# Altium integrated library Altium_WE-TVS (rev24a).IntLib: 34 symbols
Pins are listed as number, name and electrical type; pins without a type are passive.

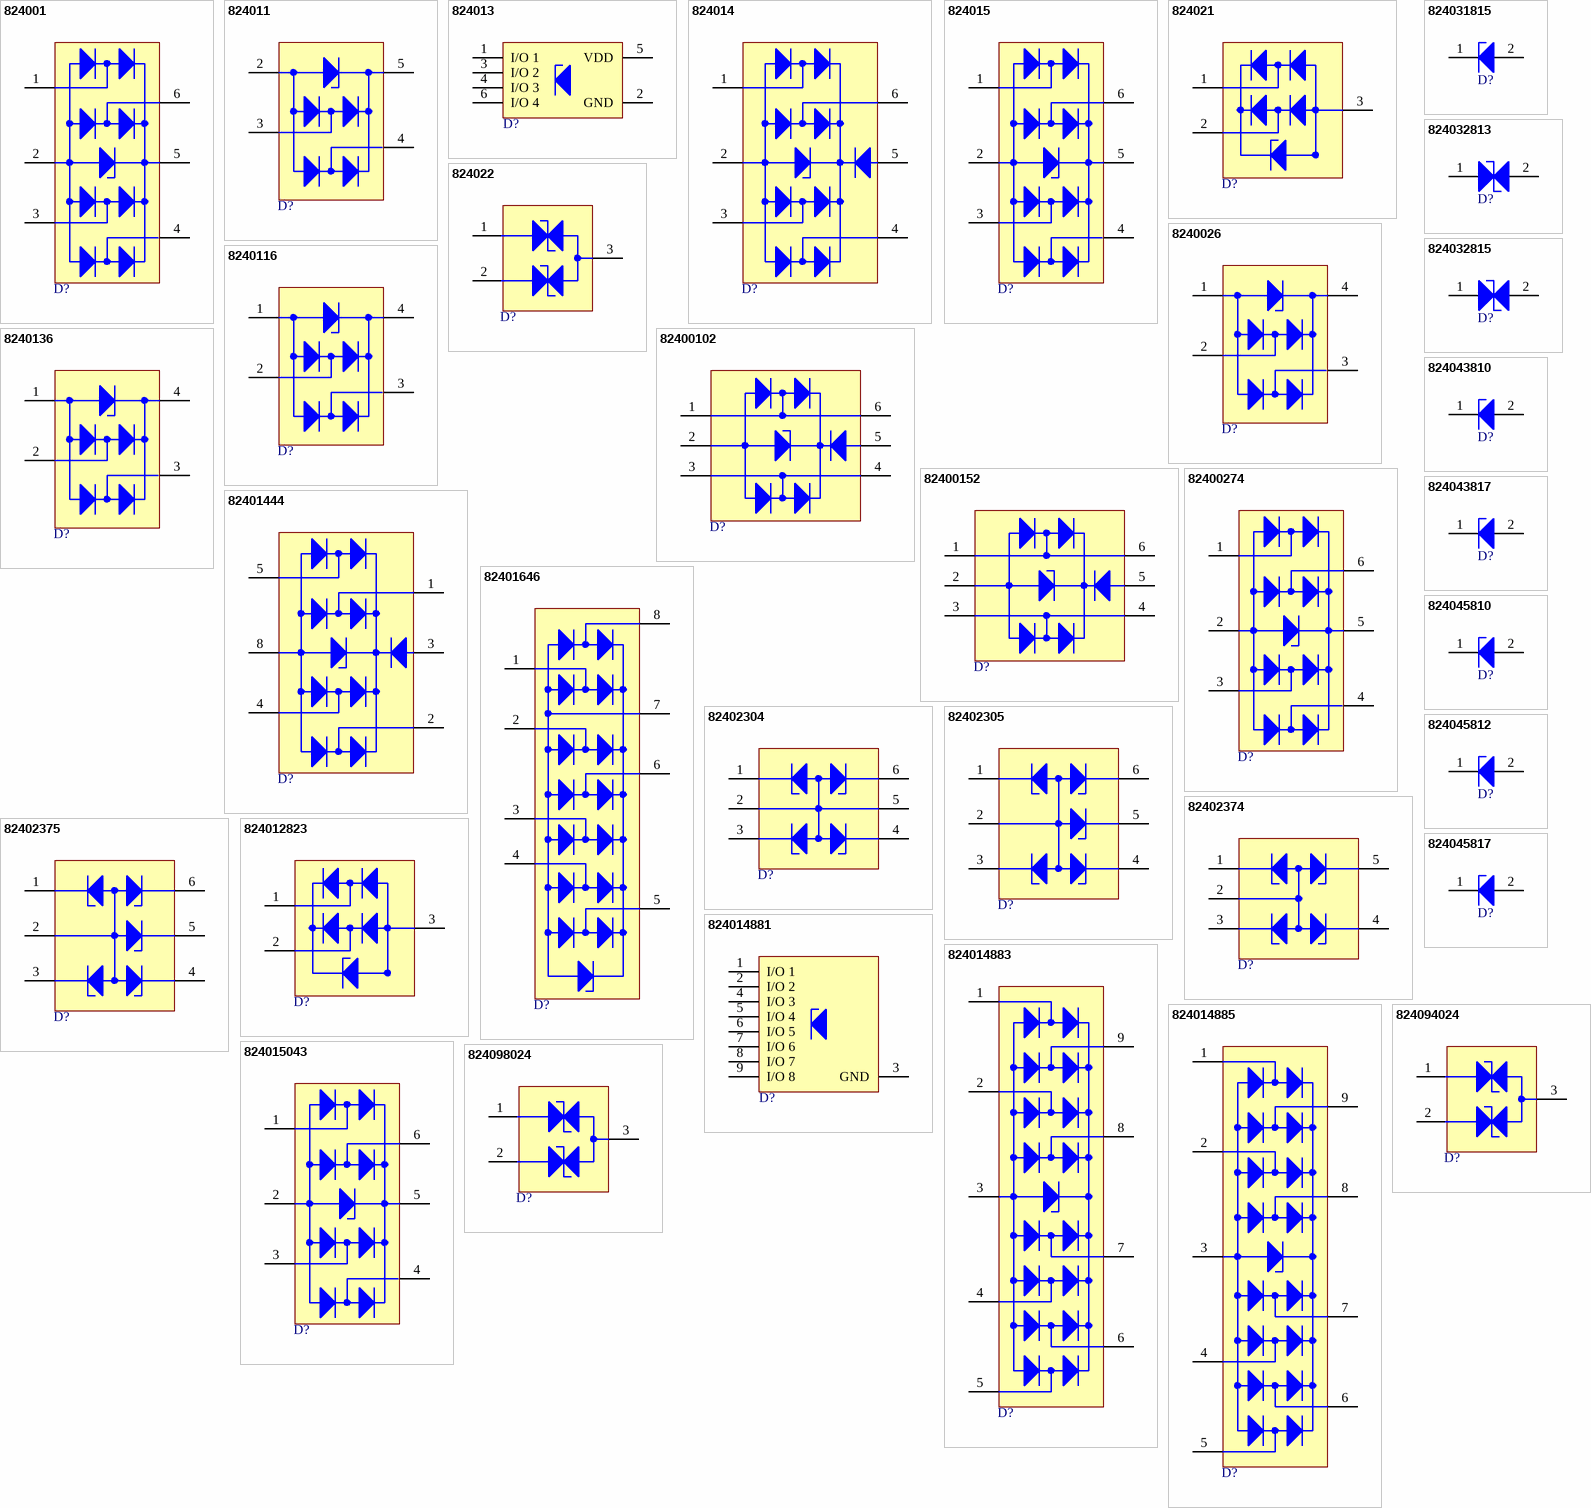
[diagram p0: symbols 824001 to 824098024]

## 824001
designator D?, comment 5V  (value not drawn)
WE-TVS TVS Diode – High Speed Series, SOT23-6L, 4+1 Channel, 5V, 1pF; Manufacturer Part Number: 824001; Manufacturer: Wurth Elektronik; Channel ESD Clamping Voltage: 14V; Channel Reverse Leakage Current: 2uA; ESD Air Discharge Capability: 15kV; ESD Contact Discharge Capability: 8kV; Polarity: Unidirectional; (Reverse) Breakdown Voltage: 6.2V; (Reverse) Peak Pulse Current: 5A; Category: ESD Protection; Match Code: WE-TVS; ComponentLink1Description: Website Link; ComponentLink1URL: https://www.we-online.com/redexpert/article/824001?ad; ComponentLink2Description: Datasheet Link; ComponentLink2URL: https://www.we-online.com/redexpert/spec/824001?ad; Mount: Surface Mount; Operating Temperature Max: 125°C; Operating Temperature Min: -40°C; Packaging: Tape and Reel; Case/Size Code: SOT23-6L; Length: 2.9mm; Width: 2.8mm; Height: 1.45mm; Channel Input Capacitance: 1pF; Channel Operating Voltage: 5V; Number of Channels: 4+1
footprint WE-TVS_SOT23-6L
pins: 1 I/O 1, 2 GND, 3 I/O 2, 4 I/O 3, 5 VDD, 6 I/O 4

## 824011
designator D?, comment 5V  (value not drawn)
WE-TVS TVS Diode – High Speed Series, SOT23-5L, 2+1 Channel, 5V, 2pF; Manufacturer Part Number: 824011; Manufacturer: Wurth Elektronik; Channel ESD Clamping Voltage: 13V; Channel Reverse Leakage Current: 1uA; ESD Air Discharge Capability: 24kV; ESD Contact Discharge Capability: 16kV; Polarity: Unidirectional; (Reverse) Breakdown Voltage: 6.1V; (Reverse) Peak Pulse Current: 13A; Category: ESD Protection; Match Code: WE-TVS; ComponentLink1Description: Website Link; ComponentLink1URL: https://www.we-online.com/redexpert/article/824011?ad; ComponentLink2Description: Datasheet Link; ComponentLink2URL: https://www.we-online.com/redexpert/spec/824011?ad; Mount: Surface Mount; Operating Temperature Max: 125°C; Operating Temperature Min: -55°C; Packaging: Tape and Reel; Case/Size Code: SOT23-5L; Length: 2.9mm; Width: 2.8mm; Height: 1.16mm; Channel Input Capacitance: 2pF; Channel Operating Voltage: 5V; Number of Channels: 2+1
footprint WE-TVS_SOT23-5L
pins: 2 GND, 3 I/O 1, 4 I/O 2, 5 VDD

## 824013
designator D?, comment 3.3V  (value not drawn)
WE-TVS TVS Diode – High Speed Series, SOT23-6L, 4+1 Channel, 3.3V, 3pF; Manufacturer Part Number: 824013; Manufacturer: Wurth Elektronik; Channel ESD Clamping Voltage: 9V; Channel Reverse Leakage Current: 1uA; ESD Air Discharge Capability: 30kV; ESD Contact Discharge Capability: 24kV; Polarity: Unidirectional; (Reverse) Breakdown Voltage: 4.5V; (Reverse) Peak Pulse Current: 12A; Category: ESD Protection; Match Code: WE-TVS; ComponentLink1Description: Website Link; ComponentLink1URL: https://www.we-online.com/redexpert/article/824013?ad; ComponentLink2Description: Datasheet Link; ComponentLink2URL: https://www.we-online.com/redexpert/spec/824013?ad; Mount: Surface Mount; Operating Temperature Max: 125°C; Operating Temperature Min: -40°C; Packaging: Tape and Reel; Case/Size Code: SOT23-6L; Length: 2.9mm; Width: 2.8mm; Height: 1.45mm; Channel Input Capacitance: 3pF; Channel Operating Voltage: 3.3V; Number of Channels: 4+1
footprint WE-TVS_SOT23-6L
pins: 1 I/O 1, 2 GND, 3 I/O 2, 4 I/O 3, 5 VDD, 6 I/O 4

## 824014
designator D?, comment 5V  (value not drawn)
WE-TVS TVS Diode – Super Speed Series, SOT23-6L, 4+1 Channel, 5V, 0.55pF; Manufacturer Part Number: 824014; Manufacturer: Wurth Elektronik; Channel ESD Clamping Voltage: 12V; Channel Reverse Leakage Current: 1uA; ESD Air Discharge Capability: 16kV; ESD Contact Discharge Capability: 10kV; Polarity: Unidirectional; (Reverse) Breakdown Voltage: 6V; (Reverse) Peak Pulse Current: 4A; Category: ESD Protection; Match Code: WE-TVS; ComponentLink1Description: Website Link; ComponentLink1URL: https://www.we-online.com/redexpert/article/824014?ad; ComponentLink2Description: Datasheet Link; ComponentLink2URL: https://www.we-online.com/redexpert/spec/824014?ad; Mount: Surface Mount; Operating Temperature Max: 85°C; Operating Temperature Min: -55°C; Packaging: Tape and Reel; Case/Size Code: SOT23-6L; Length: 2.9mm; Width: 2.8mm; Height: 1.45mm; Channel Input Capacitance: 0.55pF; Channel Operating Voltage: 5V; Number of Channels: 4+1
footprint WE-TVS_SOT23-6L
pins: 1 I/O 1, 2 GND, 3 I/O 2, 4 I/O 3, 5 VDD, 6 I/O 4

## 824015
designator D?, comment 5V  (value not drawn)
WE-TVS TVS Diode – High Speed Series, SOT23-6L, 4+1 Channel, 5V, 1pF; Manufacturer Part Number: 824015; Manufacturer: Wurth Elektronik; Channel ESD Clamping Voltage: 13V; Channel Reverse Leakage Current: 1uA; ESD Air Discharge Capability: 20kV; ESD Contact Discharge Capability: 12kV; Polarity: Unidirectional; (Reverse) Breakdown Voltage: 6.1V; (Reverse) Peak Pulse Current: 12A; Category: ESD Protection; Match Code: WE-TVS; ComponentLink1Description: Website Link; ComponentLink1URL: https://www.we-online.com/redexpert/article/824015?ad; ComponentLink2Description: Datasheet Link; ComponentLink2URL: https://www.we-online.com/redexpert/spec/824015?ad; Mount: Surface Mount; Operating Temperature Max: 125°C; Operating Temperature Min: -40°C; Packaging: Tape and Reel; Case/Size Code: SOT23-6L; Length: 2.9mm; Width: 2.8mm; Height: 1.45mm; Channel Input Capacitance: 1pF; Channel Operating Voltage: 5V; Number of Channels: 4+1
footprint WE-TVS_SOT23-6L
pins: 1 I/O 1, 2 GND, 3 I/O 2, 4 I/O 3, 5 VDD, 6 I/O 4

## 824021
designator D?, comment 5V  (value not drawn)
WE-TVS TVS Diode – Standard Series, SOT23-3L, 2 Channel, 5V, 55pF; Manufacturer Part Number: 824021; Manufacturer: Wurth Elektronik; Channel ESD Clamping Voltage: 10V; Channel Reverse Leakage Current: 2.5uA; ESD Air Discharge Capability: 30kV; ESD Contact Discharge Capability: 18kV; Number of Channels: 2; Polarity: Unidirectional; (Reverse) Breakdown Voltage: 6.1V; (Reverse) Peak Pulse Current: 15A; Category: ESD Protection; Match Code: WE-TVS; ComponentLink1Description: Website Link; ComponentLink1URL: https://www.we-online.com/redexpert/article/824021?ad; ComponentLink2Description: Datasheet Link; ComponentLink2URL: https://www.we-online.com/redexpert/spec/824021?ad; Mount: Surface Mount; Operating Temperature Max: 125°C; Operating Temperature Min: -55°C; Packaging: Tape and Reel; Case/Size Code: SOT23-3L; Length: 2.9mm; Width: 2.4mm; Height: 1.1mm; Channel Input Capacitance: 55pF; Channel Operating Voltage: 5V
footprint WE-TVS_SOT23-3L
pins: 1 I/O 1, 2 I/O 2, 3 GND

## 824022
designator D?, comment 5V  (value not drawn)
WE-TVS TVS Diode – Standard Series, SOT23-3L, 2 Channel, 5V, 12pF; Manufacturer Part Number: 824022; Manufacturer: Wurth Elektronik; Channel ESD Clamping Voltage: 9V; Channel Reverse Leakage Current: 2.5uA; ESD Air Discharge Capability: 20kV; ESD Contact Discharge Capability: 12kV; Number of Channels: 2; Polarity: Bidirectional; (Reverse) Breakdown Voltage: 6.1V; (Reverse) Peak Pulse Current: 8A; Category: ESD Protection; Match Code: WE-TVS; ComponentLink1Description: Website Link; ComponentLink1URL: https://www.we-online.com/redexpert/article/824022?ad; ComponentLink2Description: Datasheet Link; ComponentLink2URL: https://www.we-online.com/redexpert/spec/824022?ad; Mount: Surface Mount; Operating Temperature Max: 125°C; Operating Temperature Min: -55°C; Packaging: Tape and Reel; Case/Size Code: SOT23-3L; Length: 2.9mm; Width: 2.4mm; Height: 1.1mm; Channel Input Capacitance: 12pF; Channel Operating Voltage: 5V
footprint WE-TVS_SOT23-3L
pins: 1 I/O 1, 2 I/O 2, 3 GND

## 8240026
designator D?, comment 5V  (value not drawn)
WE-TVS TVS Diode – High Speed Series, SOT143-4L, 2+1 Channel, 5V, 1.2pF; Manufacturer Part Number: 8240026; Manufacturer: Wurth Elektronik; Channel ESD Clamping Voltage: 12.5V; Channel Reverse Leakage Current: 1uA; ESD Air Discharge Capability: 16kV; ESD Contact Discharge Capability: 12kV; Polarity: Unidirectional; (Reverse) Breakdown Voltage: 6V; (Reverse) Peak Pulse Current: 6A; Category: ESD Protection; Match Code: WE-TVS; ComponentLink1Description: Website Link; ComponentLink1URL: https://www.we-online.com/redexpert/article/8240026?ad; ComponentLink2Description: Datasheet Link; ComponentLink2URL: https://www.we-online.com/redexpert/spec/8240026?ad; Mount: Surface Mount; Operating Temperature Max: 125°C; Operating Temperature Min: -55°C; Packaging: Tape and Reel; Case/Size Code: SOT143-4L; Length: 2.95mm; Width: 2.4mm; Height: 1.08mm; Channel Input Capacitance: 1.2pF; Channel Operating Voltage: 5V; Number of Channels: 2+1
footprint WE-TVS_SOT143-4L
pins: 1 GND, 2 I/O 1, 3 I/O 2, 4 VDD

## 8240116
designator D?, comment 5V  (value not drawn)
WE-TVS TVS Diode – High Speed Series, SOT143-4L, 2+1 Channel, 5V, 2pF; Manufacturer Part Number: 8240116; Manufacturer: Wurth Elektronik; Channel ESD Clamping Voltage: 13V; Channel Reverse Leakage Current: 1uA; ESD Air Discharge Capability: 20kV; ESD Contact Discharge Capability: 12kV; Polarity: Unidirectional; (Reverse) Breakdown Voltage: 6.1V; (Reverse) Peak Pulse Current: 12A; Category: ESD Protection; Match Code: WE-TVS; ComponentLink1Description: Website Link; ComponentLink1URL: https://www.we-online.com/redexpert/article/8240116?ad; ComponentLink2Description: Datasheet Link; ComponentLink2URL: https://www.we-online.com/redexpert/spec/8240116?ad; Mount: Surface Mount; Operating Temperature Max: 125°C; Operating Temperature Min: -55°C; Packaging: Tape and Reel; Case/Size Code: SOT143-4L; Length: 2.95mm; Width: 2.4mm; Height: 1.08mm; Channel Input Capacitance: 2pF; Channel Operating Voltage: 5V; Number of Channels: 2+1
footprint WE-TVS_SOT143-4L
pins: 1 GND, 2 I/O 1, 3 I/O 2, 4 VDD

## 8240136
designator D?, comment 3.3V  (value not drawn)
WE-TVS TVS Diode – High Speed Series, SOT143-4L, 2+1 Channel, 3.3V, 3pF; Manufacturer Part Number: 8240136; Manufacturer: Wurth Elektronik; Channel ESD Clamping Voltage: 9V; Channel Reverse Leakage Current: 1uA; ESD Air Discharge Capability: 30kV; ESD Contact Discharge Capability: 24kV; Polarity: Unidirectional; (Reverse) Breakdown Voltage: 4.5V; (Reverse) Peak Pulse Current: 12A; Category: ESD Protection; Match Code: WE-TVS; ComponentLink1Description: Website Link; ComponentLink1URL: https://www.we-online.com/redexpert/article/8240136?ad; ComponentLink2Description: Datasheet Link; ComponentLink2URL: https://www.we-online.com/redexpert/spec/8240136?ad; Mount: Surface Mount; Operating Temperature Max: 125°C; Operating Temperature Min: -55°C; Packaging: Tape and Reel; Case/Size Code: SOT143-4L; Length: 2.95mm; Width: 2.4mm; Height: 1.08mm; Channel Input Capacitance: 3pF; Channel Operating Voltage: 3.3V; Number of Channels: 2+1
footprint WE-TVS_SOT143-4L
pins: 1 GND, 2 I/O 1, 3 I/O 2, 4 VDD

## 82400102
designator D?, comment 5V  (value not drawn)
WE-TVS TVS Diode – High Speed Series, SOT23-6L, 2+1 Channel, 5V, 2pF; Manufacturer Part Number: 82400102; Manufacturer: Wurth Elektronik; Channel ESD Clamping Voltage: 10V; Channel Reverse Leakage Current: 1uA; ESD Air Discharge Capability: 15kV; ESD Contact Discharge Capability: 8kV; Polarity: Unidirectional; (Reverse) Breakdown Voltage: 6V; (Reverse) Peak Pulse Current: 7A; Category: ESD Protection; Match Code: WE-TVS; ComponentLink1Description: Website Link; ComponentLink1URL: https://www.we-online.com/redexpert/article/82400102?ad; ComponentLink2Description: Datasheet Link; ComponentLink2URL: https://www.we-online.com/redexpert/spec/82400102?ad; Mount: Surface Mount; Operating Temperature Max: 125°C; Operating Temperature Min: -40°C; Packaging: Tape and Reel; Case/Size Code: SOT23-6L; Length: 2.9mm; Width: 2.8mm; Height: 1.45mm; Channel Input Capacitance: 2pF; Channel Operating Voltage: 5V; Number of Channels: 2+1
footprint WE-TVS_SOT23-6L
pins: 1 I/O 1, 2 GND, 3 I/O 2, 4 I/O 2, 5 VDD, 6 I/O 1

## 82400152
designator D?, comment 5V  (value not drawn)
WE-TVS TVS Diode – High Speed Series, SOT563, 2+1 Channel, 5V, 2pF; Manufacturer Part Number: 82400152; Manufacturer: Wurth Elektronik; Channel ESD Clamping Voltage: 10V; Channel Reverse Leakage Current: 1uA; ESD Air Discharge Capability: 15kV; ESD Contact Discharge Capability: 8kV; Polarity: Unidirectional; (Reverse) Breakdown Voltage: 6V; (Reverse) Peak Pulse Current: 6A; Category: ESD Protection; Match Code: WE-TVS; ComponentLink1Description: Website Link; ComponentLink1URL: https://www.we-online.com/redexpert/article/82400152?ad; ComponentLink2Description: Datasheet Link; ComponentLink2URL: https://www.we-online.com/redexpert/spec/82400152?ad; Mount: Surface Mount; Operating Temperature Max: 125°C; Operating Temperature Min: -40°C; Packaging: Tape and Reel; Case/Size Code: SOT563; Length: 1.6mm; Width: 1.6mm; Height: 0.55mm; Channel Input Capacitance: 2pF; Channel Operating Voltage: 5V; Number of Channels: 2+1
footprint WE-TVS_SOT563
pins: 1 I/O 1, 2 GND, 3 I/O 2, 4 I/O 2, 5 VDD, 6 I/O 1

## 82400274
designator D?, comment 5V  (value not drawn)
WE-TVS TVS Diode – High Speed Series, SC70-6L, 4+1 Channel, 5V, 1.2pF; Manufacturer Part Number: 82400274; Manufacturer: Wurth Elektronik; Channel ESD Clamping Voltage: 12.5V; Channel Reverse Leakage Current: 1uA; ESD Air Discharge Capability: 16kV; ESD Contact Discharge Capability: 12kV; Polarity: Unidirectional; (Reverse) Breakdown Voltage: 6V; (Reverse) Peak Pulse Current: 6A; Category: ESD Protection; Match Code: WE-TVS; ComponentLink1Description: Website Link; ComponentLink1URL: https://www.we-online.com/redexpert/article/82400274?ad; ComponentLink2Description: Datasheet Link; ComponentLink2URL: https://www.we-online.com/redexpert/spec/82400274?ad; Mount: Surface Mount; Operating Temperature Max: 85°C; Operating Temperature Min: -55°C; Packaging: Tape and Reel; Case/Size Code: SC70-6L; Length: 2.1mm; Width: 2mm; Height: 1mm; Channel Input Capacitance: 1.2pF; Channel Operating Voltage: 5V; Number of Channels: 4+1
footprint WE-TVS_SC70-6L
pins: 1 I/O 1, 2 GND, 3 I/O 2, 4 I/O 3, 5 VDD, 6 I/O 4

## 82401444
designator D?, comment 5V  (value not drawn)
WE-TVS TVS Diode – Super Speed Series, MSOP-10L, 4+1 Channel, 5V, 0.55pF; Manufacturer Part Number: 82401444; Manufacturer: Wurth Elektronik; Channel ESD Clamping Voltage: 12V; Channel Reverse Leakage Current: 1uA; ESD Air Discharge Capability: 16kV; ESD Contact Discharge Capability: 10kV; Polarity: Unidirectional; (Reverse) Breakdown Voltage: 6V; (Reverse) Peak Pulse Current: 5A; Category: ESD Protection; Match Code: WE-TVS; ComponentLink1Description: Website Link; ComponentLink1URL: https://www.we-online.com/redexpert/article/82401444?ad; ComponentLink2Description: Datasheet Link; ComponentLink2URL: https://www.we-online.com/redexpert/spec/82401444?ad; Mount: Surface Mount; Operating Temperature Max: 85°C; Operating Temperature Min: -55°C; Packaging: Tape and Reel; Case/Size Code: MSOP-10L; Length: 4.9mm; Width: 3mm; Height: 0.96mm; Channel Input Capacitance: 0.55pF; Channel Operating Voltage: 5V; Number of Channels: 4+1
footprint WE-TVS_MSOP-10L
pins: 1 I/O 1, 2 I/O 2, 3 VDD, 4 I/O 3, 5 I/O 4, 8 GND

## 82401646
designator D?, comment 5V  (value not drawn)
WE-TVS TVS Diode – Super Speed Series, MSOP-8L, 6+1 Channel, 5V, 0.2pF; Manufacturer Part Number: 82401646; Manufacturer: Wurth Elektronik; Channel ESD Clamping Voltage: 13V; Channel Reverse Leakage Current: 1uA; ESD Air Discharge Capability: 15kV; ESD Contact Discharge Capability: 8kV; Polarity: Unidirectional; (Reverse) Breakdown Voltage: 6V; (Reverse) Peak Pulse Current: 2.5A; Category: ESD Protection; Match Code: WE-TVS; ComponentLink1Description: Website Link; ComponentLink1URL: https://www.we-online.com/redexpert/article/82401646?ad; ComponentLink2Description: Datasheet Link; ComponentLink2URL: https://www.we-online.com/redexpert/spec/82401646?ad; Mount: Surface Mount; Operating Temperature Max: 85°C; Operating Temperature Min: -55°C; Packaging: Tape and Reel; Case/Size Code: MSOP-8L; Length: 4.9mm; Width: 3mm; Height: 0.96mm; Channel Input Capacitance: 0.2pF; Channel Operating Voltage: 5V; Number of Channels: 6+1
footprint WE-TVS_MSOP-8L
pins: 1 I/O 1, 2 I/O 2, 3 I/O 3, 4 I/O 4, 5 I/O 5, 6 I/O 6, 7 GND, 8 VDD

## 82402304
designator D?, comment 5V  (value not drawn)
WE-TVS TVS Diode – Standard Series, SOT23-6L, 4 Channel, 5V, 13pF; Manufacturer Part Number: 82402304; Manufacturer: Wurth Elektronik; Channel ESD Clamping Voltage: 8.5V; Channel Reverse Leakage Current: 2.5uA; ESD Air Discharge Capability: 16kV; ESD Contact Discharge Capability: 10kV; Number of Channels: 4; Polarity: Unidirectional; (Reverse) Breakdown Voltage: 6V; (Reverse) Peak Pulse Current: 6A; Category: ESD Protection; Match Code: WE-TVS; ComponentLink1Description: Website Link; ComponentLink1URL: https://www.we-online.com/redexpert/article/82402304?ad; ComponentLink2Description: Datasheet Link; ComponentLink2URL: https://www.we-online.com/redexpert/spec/82402304?ad; Mount: Surface Mount; Operating Temperature Max: 85°C; Operating Temperature Min: -55°C; Packaging: Tape and Reel; Case/Size Code: SOT23-6L; Length: 2.9mm; Width: 2.8mm; Height: 1.45mm; Channel Input Capacitance: 13pF; Channel Operating Voltage: 5V
footprint WE-TVS_SOT23-6L
pins: 1 I/O 1, 2 GND, 3 I/O 2, 4 I/O 3, 5 GND, 6 I/O 4

## 82402305
designator D?, comment 5V  (value not drawn)
WE-TVS TVS Diode – Standard Series, SOT23-6L, 5 Channel, 5V, 13pF; Manufacturer Part Number: 82402305; Manufacturer: Wurth Elektronik; Channel ESD Clamping Voltage: 8V; Channel Reverse Leakage Current: 2.5uA; ESD Air Discharge Capability: 16kV; ESD Contact Discharge Capability: 10kV; Number of Channels: 5; Polarity: Unidirectional; (Reverse) Breakdown Voltage: 6V; (Reverse) Peak Pulse Current: 6A; Category: ESD Protection; Match Code: WE-TVS; ComponentLink1Description: Website Link; ComponentLink1URL: https://www.we-online.com/redexpert/article/82402305?ad; ComponentLink2Description: Datasheet Link; ComponentLink2URL: https://www.we-online.com/redexpert/spec/82402305?ad; Mount: Surface Mount; Operating Temperature Max: 85°C; Operating Temperature Min: -55°C; Packaging: Tape and Reel; Case/Size Code: SOT23-6L; Length: 2.9mm; Width: 2.8mm; Height: 1.45mm; Channel Input Capacitance: 13pF; Channel Operating Voltage: 5V
footprint WE-TVS_SOT23-6L
pins: 1 I/O 1, 2 GND, 3 I/O 2, 4 I/O 3, 5 I/O 4, 6 I/O 5

## 82402374
designator D?, comment 5V  (value not drawn)
WE-TVS TVS Diode – Standard Series, SC70-5L, 4 Channel, 5V, 13pF; Manufacturer Part Number: 82402374; Manufacturer: Wurth Elektronik; Channel ESD Clamping Voltage: 8.5V; Channel Reverse Leakage Current: 2.5uA; ESD Air Discharge Capability: 16kV; ESD Contact Discharge Capability: 10kV; Number of Channels: 4; Polarity: Unidirectional; (Reverse) Breakdown Voltage: 6V; (Reverse) Peak Pulse Current: 6A; Category: ESD Protection; Match Code: WE-TVS; ComponentLink1Description: Website Link; ComponentLink1URL: https://www.we-online.com/redexpert/article/82402374?ad; ComponentLink2Description: Datasheet Link; ComponentLink2URL: https://www.we-online.com/redexpert/spec/82402374?ad; Mount: Surface Mount; Operating Temperature Max: 85°C; Operating Temperature Min: -55°C; Packaging: Tape and Reel; Case/Size Code: SC70-5L; Length: 2.1mm; Width: 2mm; Height: 1mm; Channel Input Capacitance: 13pF; Channel Operating Voltage: 5V
footprint WE-TVS_SC70-5L
pins: 1 I/O 1, 2 GND, 3 I/O 2, 4 I/O 3, 5 I/O 4

## 82402375
designator D?, comment 5V  (value not drawn)
WE-TVS TVS Diode – Standard Series, SC70-6L, 5 Channel, 5V, 13pF; Manufacturer Part Number: 82402375; Manufacturer: Wurth Elektronik; Channel ESD Clamping Voltage: 8V; Channel Reverse Leakage Current: 2.5uA; ESD Air Discharge Capability: 16kV; ESD Contact Discharge Capability: 10kV; Number of Channels: 5; Polarity: Unidirectional; (Reverse) Breakdown Voltage: 6V; (Reverse) Peak Pulse Current: 6A; Category: ESD Protection; Match Code: WE-TVS; ComponentLink1Description: Website Link; ComponentLink1URL: https://www.we-online.com/redexpert/article/82402375?ad; ComponentLink2Description: Datasheet Link; ComponentLink2URL: https://www.we-online.com/redexpert/spec/82402375?ad; Mount: Surface Mount; Operating Temperature Max: 85°C; Operating Temperature Min: -55°C; Packaging: Tape and Reel; Case/Size Code: SC70-6L; Length: 2.1mm; Width: 2mm; Height: 1mm; Channel Input Capacitance: 13pF; Channel Operating Voltage: 5V
footprint WE-TVS_SC70-6L
pins: 1 I/O 1, 2 GND, 3 I/O 2, 4 I/O 3, 5 I/O 4, 6 I/O 5

## 824012823
designator D?, comment 3.3V  (value not drawn)
WE-TVS TVS Diode – Super Speed Series, DFN1210-6L, 2 Channel, 3.3V, 0.18pF; Manufacturer Part Number: 824012823; Manufacturer: Wurth Elektronik; Channel ESD Clamping Voltage: 13V; Channel Reverse Leakage Current: 0.5uA; ESD Air Discharge Capability: 15kV; ESD Contact Discharge Capability: 8kV; Number of Channels: 2; Polarity: Unidirectional; (Reverse) Breakdown Voltage: 4.5V; (Reverse) Peak Pulse Current: 3A; Category: ESD Protection; Match Code: WE-TVS; ComponentLink1Description: Website Link; ComponentLink1URL: https://www.we-online.com/redexpert/article/824012823?ad; ComponentLink2Description: Datasheet Link; ComponentLink2URL: https://www.we-online.com/redexpert/spec/824012823?ad; Mount: Surface Mount; Operating Temperature Max: 85°C; Operating Temperature Min: -55°C; Packaging: Tape and Reel; Case/Size Code: DFN1210-6L; Length: 1.2mm; Width: 1mm; Height: 0.45mm; Channel Input Capacitance: 0.18pF; Channel Operating Voltage: 3.3V
footprint WE-TVS_DFN1210-6L
pins: 1 I/O 1, 2 I/O 2, 3 GND

## 824014881
designator D?, comment 1.2V  (value not drawn)
WE-TVS TVS Diode – Super Speed Series, DFN3810-9L, 8 Channel, 1.2V, 0.35pF; Manufacturer Part Number: 824014881; Manufacturer: Wurth Elektronik; Channel ESD Clamping Voltage: 7V; Channel Reverse Leakage Current: 0.5uA; ESD Air Discharge Capability: 15kV; ESD Contact Discharge Capability: 10kV; Number of Channels: 8; Polarity: Unidirectional; (Reverse) Breakdown Voltage: 4.5V; (Reverse) Peak Pulse Current: 4A; Category: ESD Protection; Match Code: WE-TVS; ComponentLink1Description: Website Link; ComponentLink1URL: https://www.we-online.com/redexpert/article/824014881?ad; ComponentLink2Description: Datasheet Link; ComponentLink2URL: https://www.we-online.com/redexpert/spec/824014881?ad; Mount: Surface Mount; Operating Temperature Max: 85°C; Operating Temperature Min: -55°C; Packaging: Tape and Reel; Case/Size Code: DFN3810-9L; Length: 3.8mm; Width: 1mm; Height: 0.5mm; Channel Input Capacitance: 0.35pF; Channel Operating Voltage: 1.2V
footprint WE-TVS_DFN3810-9L
pins: 1 I/O 1, 2 I/O 2, 3 GND, 4 I/O 3, 5 I/O 4, 6 I/O 5, 7 I/O 6, 8 I/O 7, 9 I/O 8

## 824014883
designator D?, comment 3.3V  (value not drawn)
WE-TVS TVS Diode – Super Speed Series, DFN3810-9L, 8 Channel, 3.3V, 0.5pF; Manufacturer Part Number: 824014883; Manufacturer: Wurth Elektronik; Channel ESD Clamping Voltage: 9V; Channel Reverse Leakage Current: 1uA; ESD Air Discharge Capability: 15kV; ESD Contact Discharge Capability: 12kV; Number of Channels: 8; Polarity: Unidirectional; (Reverse) Breakdown Voltage: 4.5V; (Reverse) Peak Pulse Current: 5A; Category: ESD Protection; Match Code: WE-TVS; ComponentLink1Description: Website Link; ComponentLink1URL: https://www.we-online.com/redexpert/article/824014883?ad; ComponentLink2Description: Datasheet Link; ComponentLink2URL: https://www.we-online.com/redexpert/spec/824014883?ad; Mount: Surface Mount; Operating Temperature Max: 85°C; Operating Temperature Min: -55°C; Packaging: Tape and Reel; Case/Size Code: DFN3810-9L; Length: 3.8mm; Width: 1mm; Height: 0.5mm; Channel Input Capacitance: 0.5pF; Channel Operating Voltage: 3.3V
footprint WE-TVS_DFN3810-9L
pins: 1 I/O 1, 2 I/O 2, 3 GND, 4 I/O 3, 5 I/O 4, 6 I/O 5, 7 I/O 6, 8 I/O 7, 9 I/O 8

## 824014885
designator D?, comment 5V  (value not drawn)
WE-TVS TVS Diode – Super Speed Series, DFN3810-9L, 8 Channel, 5V, 0.5pF; Manufacturer Part Number: 824014885; Manufacturer: Wurth Elektronik; Channel ESD Clamping Voltage: 10.5V; Channel Reverse Leakage Current: 1uA; ESD Air Discharge Capability: 15kV; Number of Channels: 8; Polarity: Unidirectional; (Reverse) Breakdown Voltage: 6V; (Reverse) Peak Pulse Current: 5A; Category: ESD Protection; Match Code: WE-TVS; ComponentLink1Description: Website Link; ComponentLink1URL: https://www.we-online.com/redexpert/article/824014885?ad; ComponentLink2Description: Datasheet Link; ComponentLink2URL: https://www.we-online.com/redexpert/spec/824014885?ad; Mount: Surface Mount; Operating Temperature Max: 85°C; Operating Temperature Min: -55°C; Packaging: Tape and Reel; Case/Size Code: DFN3810-9L; Length: 3.8mm; Width: 1mm; Height: 0.5mm; Channel Input Capacitance: 0.5pF; Channel Operating Voltage: 5V; ESD Contact Discharge Capability: 15kV
footprint WE-TVS_DFN3810-9L
pins: 1 I/O 1, 2 I/O 2, 3 GND, 4 I/O 3, 5 I/O 4, 6 I/O 5, 7 I/O 6, 8 I/O 7, 9 I/O 8

## 824015043
designator D?, comment 3.3V  (value not drawn)
WE-TVS TVS Diode – High Speed Series, SOT23-6L, 4+1 Channel, 3.3V, 2pF; Manufacturer Part Number: 824015043; Manufacturer: Wurth Elektronik; Channel ESD Clamping Voltage: 7.5V; Channel Reverse Leakage Current: 1uA; ESD Air Discharge Capability: 30kV; Polarity: Unidirectional; (Reverse) Breakdown Voltage: 4.5V; (Reverse) Peak Pulse Current: 30A; Category: ESD Protection; Match Code: WE-TVS; ComponentLink1Description: Website Link; ComponentLink1URL: https://www.we-online.com/redexpert/article/824015043?ad; ComponentLink2Description: Datasheet Link; ComponentLink2URL: https://www.we-online.com/redexpert/spec/824015043?ad; Mount: Surface Mount; Operating Temperature Max: 125°C; Operating Temperature Min: -55°C; Packaging: Tape and Reel; Case/Size Code: SOT23-6L; Length: 2.9mm; Width: 2.8mm; Height: 1.45mm; Channel Input Capacitance: 2pF; Channel Operating Voltage: 3.3V; ESD Contact Discharge Capability: 30kV; Number of Channels: 4+1
footprint WE-TVS_SOT23-6L
pins: 1 I/O 1, 2 GND, 3 I/O 2, 4 I/O 3, 5 VDD, 6 I/O 4

## 824031815
designator D?, comment 5V  (value not drawn)
WE-TVS TVS Diode – Standard Series, DFN1610-2L, 1 Channel, 5V, 250pF; Manufacturer Part Number: 824031815; Manufacturer: Wurth Elektronik; Channel ESD Clamping Voltage: 6V; Channel Reverse Leakage Current: 1uA; ESD Air Discharge Capability: 30kV; Number of Channels: 1; Polarity: Unidirectional; (Reverse) Peak Pulse Current: 80A; Category: ESD Protection; Match Code: WE-TVS; ComponentLink1Description: Website Link; ComponentLink1URL: https://www.we-online.com/redexpert/article/824031815?ad; ComponentLink2Description: Datasheet Link; ComponentLink2URL: https://www.we-online.com/redexpert/spec/824031815?ad; Mount: Surface Mount; Operating Temperature Max: 85°C; Operating Temperature Min: -55°C; Packaging: Tape and Reel; Case/Size Code: DFN1610-2L; Length: 1.6mm; Width: 1mm; Height: 0.5mm; Channel Input Capacitance: 250pF; Channel Operating Voltage: 5V; ESD Contact Discharge Capability: 30kV; (Reverse) Breakdown Voltage: 6V
footprint WE-TVS_DFN1610-2L
pins: 1 I/O 1, 2 GND

## 824032813
designator D?, comment 3.3V  (value not drawn)
WE-TVS TVS Diode – Standard Series, DFN1610-2L, 1 Channel, 3.3V, 280pF; Manufacturer Part Number: 824032813; Manufacturer: Wurth Elektronik; Channel ESD Clamping Voltage: 4.7V; Channel Reverse Leakage Current: 0.5uA; ESD Air Discharge Capability: 30kV; Number of Channels: 1; Polarity: Bidirectional; (Reverse) Breakdown Voltage: 4V; (Reverse) Peak Pulse Current: 180A; Category: ESD Protection; Match Code: WE-TVS; ComponentLink1Description: Website Link; ComponentLink1URL: https://www.we-online.com/redexpert/article/824032813?ad; ComponentLink2Description: Datasheet Link; ComponentLink2URL: https://www.we-online.com/redexpert/spec/824032813?ad; Mount: Surface Mount; Operating Temperature Max: 85°C; Operating Temperature Min: -55°C; Packaging: Tape and Reel; Case/Size Code: DFN1610-2L; Length: 1.6mm; Width: 1mm; Height: 0.5mm; Channel Input Capacitance: 280pF; Channel Operating Voltage: 3.3V; ESD Contact Discharge Capability: 30kV
footprint WE-TVS_DFN1610-2L
pins: 1 I/O 1, 2 GND

## 824032815
designator D?, comment 5V  (value not drawn)
WE-TVS TVS Diode – Standard Series, DFN1610-2L, 1 Channel, 5V, 140pF; Manufacturer Part Number: 824032815; Manufacturer: Wurth Elektronik; Channel ESD Clamping Voltage: 6V; Channel Reverse Leakage Current: 1uA; ESD Air Discharge Capability: 30kV; Number of Channels: 1; Polarity: Bidirectional; (Reverse) Peak Pulse Current: 100A; Category: ESD Protection; Match Code: WE-TVS; ComponentLink1Description: Website Link; ComponentLink1URL: https://www.we-online.com/redexpert/article/824032815?ad; ComponentLink2Description: Datasheet Link; ComponentLink2URL: https://www.we-online.com/redexpert/spec/824032815?ad; Mount: Surface Mount; Operating Temperature Max: 85°C; Operating Temperature Min: -55°C; Packaging: Tape and Reel; Case/Size Code: DFN1610-2L; Length: 1.6mm; Width: 1mm; Height: 0.5mm; Channel Input Capacitance: 140pF; Channel Operating Voltage: 5V; ESD Contact Discharge Capability: 30kV; (Reverse) Breakdown Voltage: 6V
footprint WE-TVS_DFN1610-2L
pins: 1 I/O 1, 2 GND

## 824043810
designator D?, comment 10V  (value not drawn)
WE-TVS TVS Diode – Standard Series, DFN2020-2L, 1 Channel, 10V, 950pF; Manufacturer Part Number: 824043810; Manufacturer: Wurth Elektronik; Channel ESD Clamping Voltage: 13V; Channel Reverse Leakage Current: 1uA; ESD Air Discharge Capability: 30kV; Number of Channels: 1; Polarity: Unidirectional; (Reverse) Breakdown Voltage: 11.2V; (Reverse) Peak Pulse Current: 150A; Category: ESD Protection; Match Code: WE-TVS; ComponentLink1Description: Website Link; ComponentLink1URL: https://www.we-online.com/redexpert/article/824043810?ad; ComponentLink2Description: Datasheet Link; ComponentLink2URL: https://www.we-online.com/redexpert/spec/824043810?ad; Mount: Surface Mount; Operating Temperature Max: 85°C; Operating Temperature Min: -55°C; Packaging: Tape and Reel; Case/Size Code: DFN2020-2L; Length: 2mm; Width: 2mm; Height: 0.5mm; Channel Input Capacitance: 950pF; Channel Operating Voltage: 10V; ESD Contact Discharge Capability: 30kV
footprint WE-TVS_DFN2020-2L
pins: 1 I/O 1, 2 GND

## 824043817
designator D?, comment 7V  (value not drawn)
WE-TVS TVS Diode – Standard Series, DFN2020-2L, 1 Channel, 7V, 1650pF; Manufacturer Part Number: 824043817; Manufacturer: Wurth Elektronik; Channel ESD Clamping Voltage: 9.5V; Channel Reverse Leakage Current: 1uA; ESD Air Discharge Capability: 30kV; Number of Channels: 1; Polarity: Unidirectional; (Reverse) Breakdown Voltage: 7.8V; (Reverse) Peak Pulse Current: 180A; Category: ESD Protection; Match Code: WE-TVS; ComponentLink1Description: Website Link; ComponentLink1URL: https://www.we-online.com/redexpert/article/824043817?ad; ComponentLink2Description: Datasheet Link; ComponentLink2URL: https://www.we-online.com/redexpert/spec/824043817?ad; Mount: Surface Mount; Operating Temperature Max: 85°C; Operating Temperature Min: -55°C; Packaging: Tape and Reel; Case/Size Code: DFN2020-2L; Length: 2mm; Width: 2mm; Height: 0.5mm; Channel Input Capacitance: 1650pF; Channel Operating Voltage: 7V; ESD Contact Discharge Capability: 30kV
footprint WE-TVS_DFN2020-2L
pins: 1 I/O 1, 2 GND

## 824045810
designator D?, comment 20V  (value not drawn)
WE-TVS TVS Diode – Standard Series, DFN1610-2L, 1 Channel, 20V, 240pF; Manufacturer Part Number: 824045810; Manufacturer: Wurth Elektronik; Channel ESD Clamping Voltage: 25.5V; Channel Reverse Leakage Current: 1uA; ESD Air Discharge Capability: 30kV; Number of Channels: 1; Polarity: Unidirectional; (Reverse) Breakdown Voltage: 22.8V; (Reverse) Peak Pulse Current: 24A; Category: ESD Protection; Match Code: WE-TVS; ComponentLink1Description: Website Link; ComponentLink1URL: https://www.we-online.com/redexpert/article/824045810?ad; ComponentLink2Description: Datasheet Link; ComponentLink2URL: https://www.we-online.com/redexpert/spec/824045810?ad; Mount: Surface Mount; Operating Temperature Max: 85°C; Operating Temperature Min: -55°C; Packaging: Tape and Reel; Case/Size Code: DFN1610-2L; Length: 1.6mm; Width: 1mm; Height: 0.5mm; Channel Input Capacitance: 240pF; Channel Operating Voltage: 20V; ESD Contact Discharge Capability: 30kV
footprint WE-TVS_DFN1610-2L
pins: 1 I/O 1, 2 GND

## 824045812
designator D?, comment 12V  (value not drawn)
WE-TVS TVS Diode – Standard Series, DFN1610-2L, 1 Channel, 12V, 440pF; Manufacturer Part Number: 824045812; Manufacturer: Wurth Elektronik; Channel ESD Clamping Voltage: 15V; Channel Reverse Leakage Current: 0.1uA; ESD Air Discharge Capability: 30kV; Number of Channels: 1; Polarity: Unidirectional; (Reverse) Breakdown Voltage: 13.3V; (Reverse) Peak Pulse Current: 38A; Category: ESD Protection; Match Code: WE-TVS; ComponentLink1Description: Website Link; ComponentLink1URL: https://www.we-online.com/redexpert/article/824045812?ad; ComponentLink2Description: Datasheet Link; ComponentLink2URL: https://www.we-online.com/redexpert/spec/824045812?ad; Mount: Surface Mount; Operating Temperature Max: 85°C; Operating Temperature Min: -55°C; Packaging: Tape and Reel; Case/Size Code: DFN1610-2L; Length: 1.6mm; Width: 1mm; Height: 0.5mm; Channel Input Capacitance: 440pF; Channel Operating Voltage: 12V; ESD Contact Discharge Capability: 30kV
footprint WE-TVS_DFN1610-2L
pins: 1 I/O 1, 2 GND

## 824045817
designator D?, comment 7V  (value not drawn)
WE-TVS TVS Diode – Standard Series, DFN1610-2L, 1 Channel, 7V, 830pF; Manufacturer Part Number: 824045817; Manufacturer: Wurth Elektronik; Channel ESD Clamping Voltage: 10V; Channel Reverse Leakage Current: 1uA; ESD Air Discharge Capability: 30kV; Number of Channels: 1; Polarity: Unidirectional; (Reverse) Breakdown Voltage: 7.8V; (Reverse) Peak Pulse Current: 60A; Category: ESD Protection; Match Code: WE-TVS; ComponentLink1Description: Website Link; ComponentLink1URL: https://www.we-online.com/redexpert/article/824045817?ad; ComponentLink2Description: Datasheet Link; ComponentLink2URL: https://www.we-online.com/redexpert/spec/824045817?ad; Mount: Surface Mount; Operating Temperature Max: 85°C; Operating Temperature Min: -55°C; Packaging: Tape and Reel; Case/Size Code: DFN1610-2L; Length: 1.6mm; Width: 1mm; Height: 0.5mm; Channel Input Capacitance: 830pF; Channel Operating Voltage: 7V; ESD Contact Discharge Capability: 30kV
footprint WE-TVS_DFN1610-2L
pins: 1 I/O 1, 2 GND

## 824094024
designator D?, comment 24V  (value not drawn)
WE-TVS TVS Diode – Standard Series, SOT23-3L, 2 Channel, 24V, 38pF; Manufacturer Part Number: 824094024; Manufacturer: Wurth Elektronik; Channel ESD Clamping Voltage: 31V; Channel Reverse Leakage Current: 0.1uA; ESD Air Discharge Capability: 30kV; Number of Channels: 2; Polarity: Bidirectional; (Reverse) Breakdown Voltage: 26.2V; (Reverse) Peak Pulse Current: 6A; Category: ESD Protection; Match Code: WE-TVS; ComponentLink1Description: Website Link; ComponentLink1URL: https://www.we-online.com/redexpert/article/824094024?ad; ComponentLink2Description: Datasheet Link; ComponentLink2URL: https://www.we-online.com/redexpert/spec/824094024?ad; Mount: Surface Mount; Operating Temperature Max: 125°C; Operating Temperature Min: -55°C; Packaging: Tape and Reel; Case/Size Code: SOT23-3L; Length: 2.9mm; Width: 2.4mm; Height: 1.1mm; Channel Input Capacitance: 38pF; Channel Operating Voltage: 24V; ESD Contact Discharge Capability: 30kV
footprint WE-TVS_SOT23-3L
pins: 1 I/O 1, 2 I/O 2, 3 GND

## 824098024
designator D?, comment 24V  (value not drawn)
WE-TVS TVS Diode – Standard Series, SOT23-3L, 2 Channel, 24V, 35pF; Manufacturer Part Number: 824098024; Manufacturer: Wurth Elektronik; Channel ESD Clamping Voltage: 32.5V; Channel Reverse Leakage Current: 0.5uA; ESD Air Discharge Capability: 30kV; Number of Channels: 2; Polarity: Bidirectional; (Reverse) Breakdown Voltage: 26.2V; (Reverse) Peak Pulse Current: 6A; Category: ESD Protection; Match Code: WE-TVS; ComponentLink1Description: Website Link; ComponentLink1URL: https://www.we-online.com/redexpert/article/824098024?ad; ComponentLink2Description: Datasheet Link; ComponentLink2URL: https://www.we-online.com/redexpert/spec/824098024?ad; Mount: Surface Mount; Operating Temperature Max: 125°C; Operating Temperature Min: -55°C; Packaging: Tape and Reel; Case/Size Code: SOT23-3L; Length: 2.9mm; Width: 2.4mm; Height: 1.1mm; Channel Input Capacitance: 35pF; Channel Operating Voltage: 24V; ESD Contact Discharge Capability: 30kV
footprint WE-TVS_SOT23-3L
pins: 1 I/O 1, 2 I/O 2, 3 GND